# EAGLE library part NOKIA5110_1 (library personal)
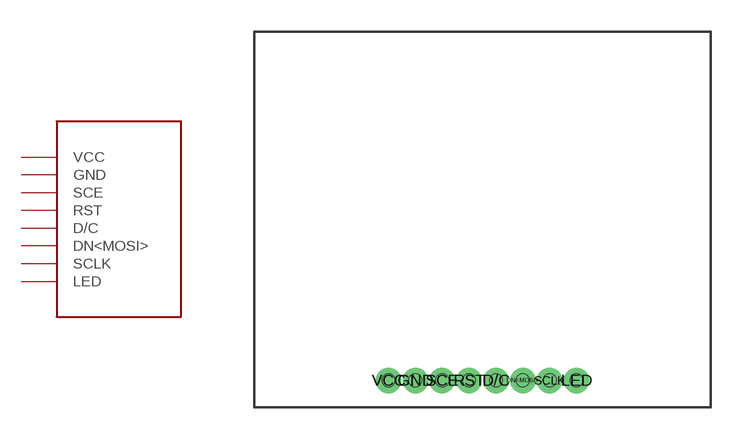
[diagram p0: symbol with the pads of NOKIA_5110; footprint NOKIA_5110]

Designator prefix -

## NOKIA5110_1  [NOKIA_5110]
D/C  D/C
DN<MOSI>  DN<MOSI>
GND  GND
LED  LED
RST  RST
SCE  SCE
SCLK  SCLK
VCC  VCC

## Footprint NOKIA_5110 (pad centres in mm)
drill 0.7 pad 1.016: D/C -11.43,-3.81; DN<MOSI> -10.16,-3.81; GND -15.24,-3.81; LED -7.62,-3.81; RST -12.7,-3.81; SCE -13.97,-3.81; SCLK -8.89,-3.81; VCC -16.51,-3.81
hole 0.6 at -16.51,-3.81
hole 0.6 at -15.24,-3.81
hole 0.6 at -13.97,-3.81
hole 0.6 at -12.7,-3.81
hole 0.6 at -11.43,-3.81
hole 0.6 at -10.16,-3.81
hole 0.6 at -8.89,-3.81
hole 0.6 at -7.62,-3.81